# EAGLE library part HD-A304 (library LED displeje)
LED displej 7,62 mm
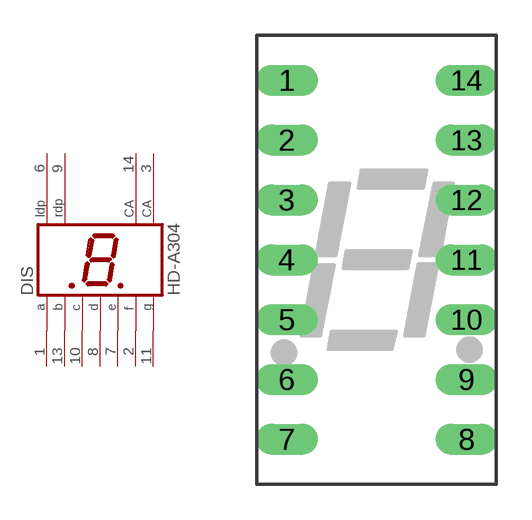
[diagram p0: symbol with the pads of HD7730; footprint HD7730]

Designator prefix DIS

## HD-A304  [HD7730]
1  A  pas
2  F  pas
3  CA  pas
6  LDP  pas
7  E  pas
8  D  pas
9  RDP  pas
10  C  pas
11  G  pas
13  B  pas
14  CA  pas

## Footprint HD7730 (pad centres in mm)
LED DISPLAY 8-mm 1 character 7 segment, 2 decimal points
drill 0.813 long: 1 -3.81,7.62; 2 -3.81,5.08; 3 -3.81,2.54; 4 -3.81,0; 5 -3.81,-2.54; 6 -3.81,-5.08; 7 -3.81,-7.62; 8 3.81,-7.62; 9 3.81,-5.08; 10 3.81,-2.54; 11 3.81,0; 12 3.81,2.54; 13 3.81,5.08; 14 3.81,7.62